# Altium integrated library Analog Devices Data Converters Analog-to-Digital Converters.IntLib: 2400 symbols (part 41 of 338)
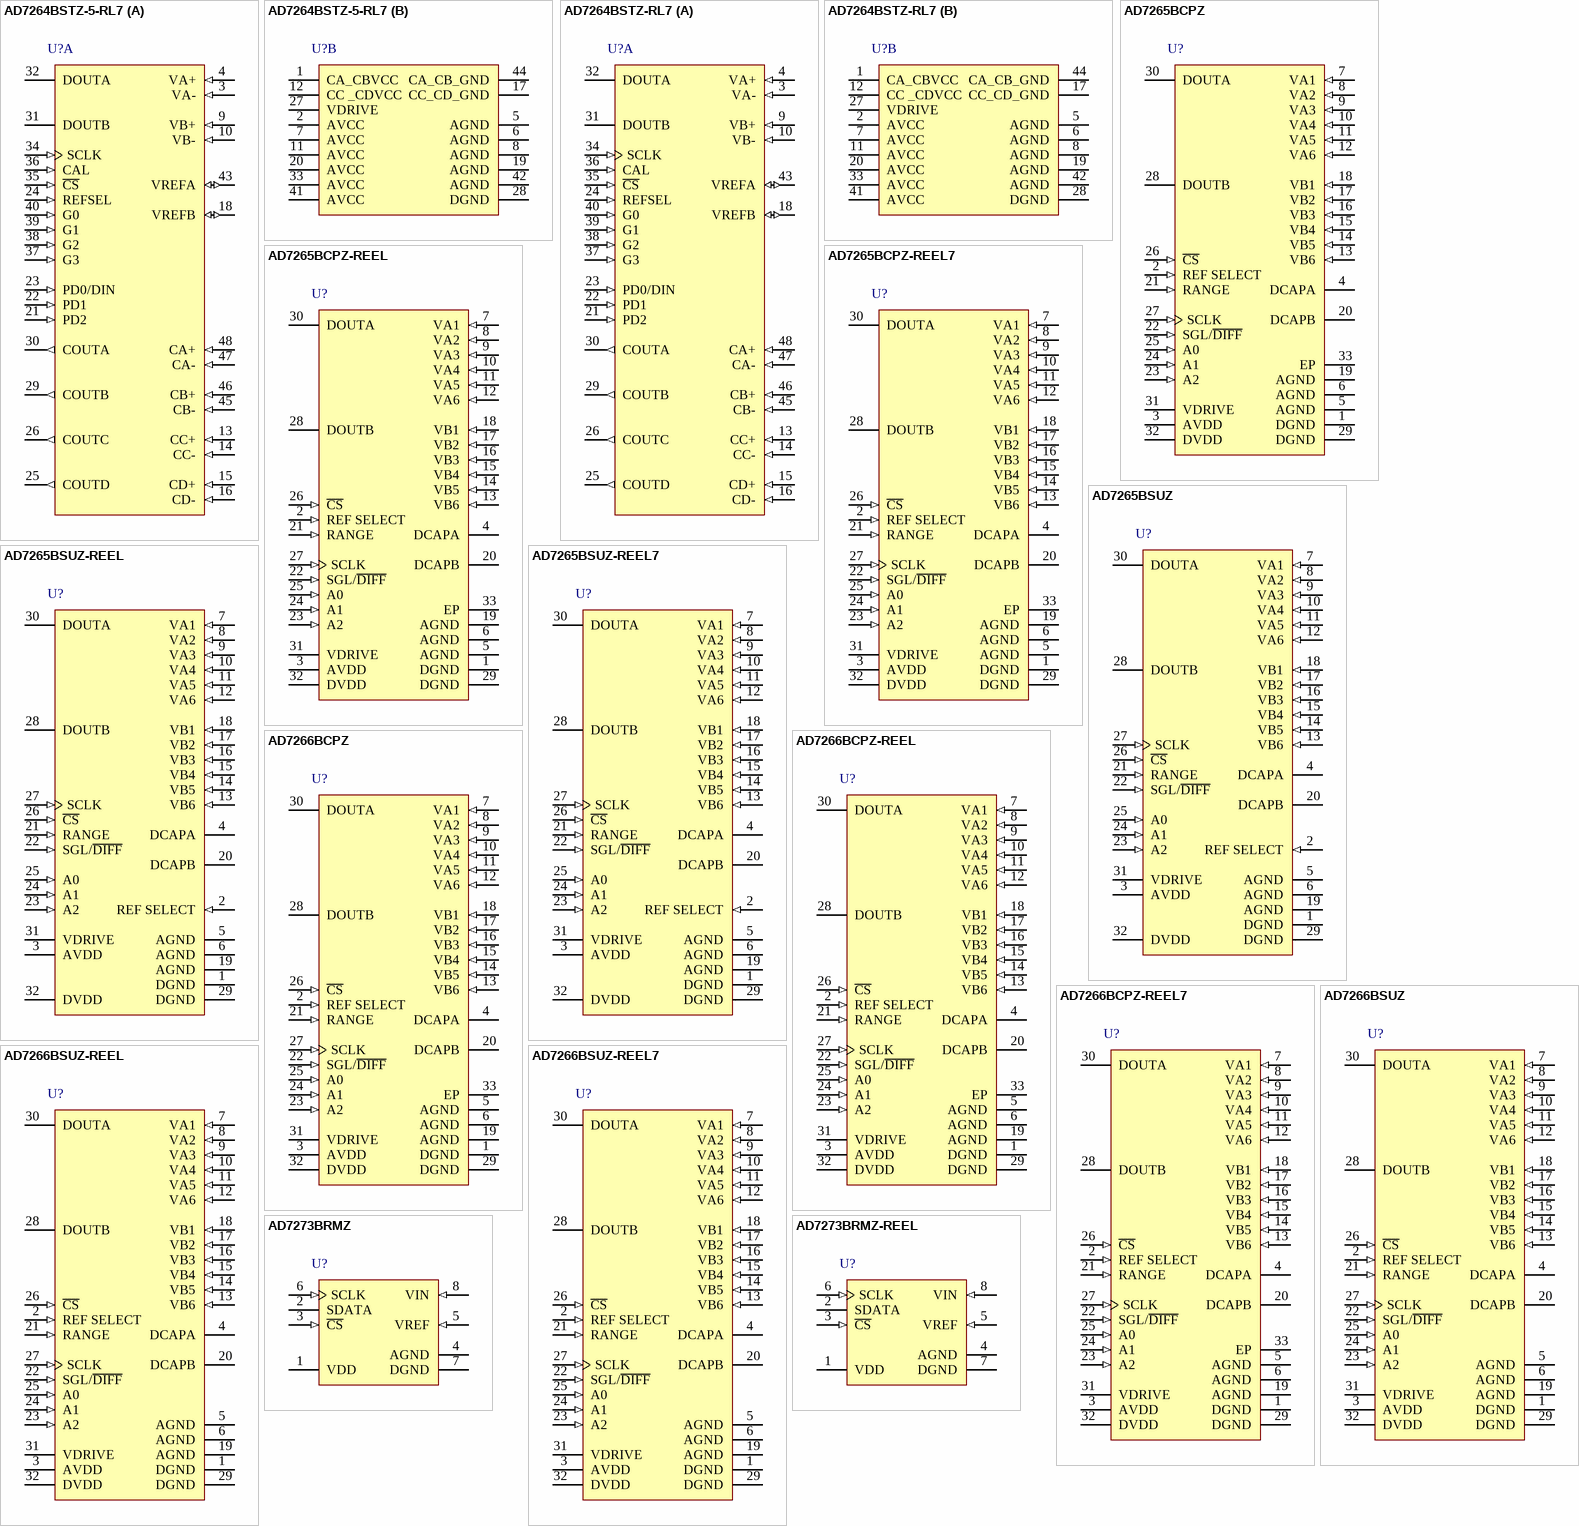
[diagram p278: symbols AD7264BSTZ-5-RL7 to AD7273BRMZ-REEL]

## AD7273BRMZ
designator U?
Single 10-Bit Analog-to-Digital Converter with Serial, SPI Interface, 3MSPS, -40 to +125 degC, RM-8, Pb-Free, Tube; Part Number: AD7273; Manufacturer: Analog Devices; Resolution (Bits): 10; Channels: 1; Throughput Rate (SPS): 3M; Interface: Ser, SPI; DatasheetVersion: Rev.0; PackageVersion: Aug-2005; PackageReference: RM-8; PackageDescription: 8-Lead Mini Small Outline Package [MSOP]; RoHS: Y; Packing: Tube; Mounting Technology: Surface Mount; Code_JEDEC: MO-187-AA; ComponentLink1Description: Manufacturer URL; ComponentLink1URL: http://www.analog.com/en/index.html; ComponentLink2Description: Datasheet; ComponentLink2URL: http://www.analog.com/static/imported-files/data_sheets/AD7273_7274.pdf; ComponentLink3Description: Package Specification; ComponentLink3URL: http://www.analog.com/static/imported-files/packages/PKG_PDF/MSOP%28RM%29/RM_8.pdf; ComponentLink4Description: Product URL; ComponentLink4URL: http://www.analog.com/en/analog-to-digital-converters/ad-converters/ad7273/products/product.html
footprint RM-8_N (TSOP, 8-Leads, Body 3x3mm, Pitch 0.65mm, IPC Medium Density)
footprint RM-8_L (TSOP, 8-Leads, Body 3x3mm, Pitch 0.65mm, IPC High Density)
footprint RM-8_M (TSOP, 8-Leads, Body 3x3mm, Pitch 0.65mm, IPC Low Density)
pins: 1 VDD (power) "Power Supply Input. The VDD range for the AD7273/AD7274 is from 2.35 V to 3.6 V.", 2 SDATA (hiz) "Data Out. Logic output. The conversion result from the AD7273/AD7274 is provided on this output as a serial data stream. The bits are clocked out on the falling edge of the SCLK input. The data stream from the AD7274 (See Datasheet)", 3 ~{CS} (in) "Chip Select. Active low logic input. This input provides the dual function of initiating conversion on the AD7273/AD7274 and framing the serial data transfer.", 4 AGND (power) "Analog Ground. Ground reference point for all circuitry on the AD7273/AD7274. All analog signals and any external reference signal should be referred to this AGND voltage.", 5 VREF (in) "Voltage Reference Input. This pin becomes the reference voltage input. An external reference should be applied at this pin. The external reference input range is 1.4 V to VDD. A 10 uF capacitor should be tied between this (See Datasheet)", 6 SCLK (in) "Serial Clock. Logic input. SCLK provides the serial clock for accessing data from the part. This clock input is also used as the clock source for the conversion process of AD7273/AD7274.", 7 DGND (power) "Digital Ground. Ground reference point for all digital circuitry on the AD7273/AD7274. The DGND and AGND voltages ideally should be at the same potential and must not be more than 0.3 V apart, even on a transient basis.", 8 VIN (in) "Analog Input. Single-ended analog input channel. The input range is 0 to VREF."

## AD7273BRMZ-REEL
designator U?
Single 10-Bit Analog-to-Digital Converter with Serial, SPI Interface, 3MSPS, -40 to +125 degC, RM-8, Pb-Free, Reel; Part Number: AD7273; Manufacturer: Analog Devices; Resolution (Bits): 10; Channels: 1; Throughput Rate (SPS): 3M; Interface: Ser, SPI; DatasheetVersion: Rev.0; PackageVersion: Aug-2005; PackageReference: RM-8; PackageDescription: 8-Lead Mini Small Outline Package [MSOP]; RoHS: Y; Packing: Reel; Mounting Technology: Surface Mount; Code_JEDEC: MO-187-AA; ComponentLink1Description: Manufacturer URL; ComponentLink1URL: http://www.analog.com/en/index.html; ComponentLink2Description: Datasheet; ComponentLink2URL: http://www.analog.com/static/imported-files/data_sheets/AD7273_7274.pdf; ComponentLink3Description: Package Specification; ComponentLink3URL: http://www.analog.com/static/imported-files/packages/PKG_PDF/MSOP%28RM%29/RM_8.pdf; ComponentLink4Description: Product URL; ComponentLink4URL: http://www.analog.com/en/analog-to-digital-converters/ad-converters/ad7273/products/product.html
footprint RM-8_N (TSOP, 8-Leads, Body 3x3mm, Pitch 0.65mm, IPC Medium Density)
footprint RM-8_L (TSOP, 8-Leads, Body 3x3mm, Pitch 0.65mm, IPC High Density)
footprint RM-8_M (TSOP, 8-Leads, Body 3x3mm, Pitch 0.65mm, IPC Low Density)
pins: 1 VDD (power) "Power Supply Input. The VDD range for the AD7273/AD7274 is from 2.35 V to 3.6 V.", 2 SDATA (hiz) "Data Out. Logic output. The conversion result from the AD7273/AD7274 is provided on this output as a serial data stream. The bits are clocked out on the falling edge of the SCLK input. The data stream from the AD7274 (See Datasheet)", 3 ~{CS} (in) "Chip Select. Active low logic input. This input provides the dual function of initiating conversion on the AD7273/AD7274 and framing the serial data transfer.", 4 AGND (power) "Analog Ground. Ground reference point for all circuitry on the AD7273/AD7274. All analog signals and any external reference signal should be referred to this AGND voltage.", 5 VREF (in) "Voltage Reference Input. This pin becomes the reference voltage input. An external reference should be applied at this pin. The external reference input range is 1.4 V to VDD. A 10 uF capacitor should be tied between this (See Datasheet)", 6 SCLK (in) "Serial Clock. Logic input. SCLK provides the serial clock for accessing data from the part. This clock input is also used as the clock source for the conversion process of AD7273/AD7274.", 7 DGND (power) "Digital Ground. Ground reference point for all digital circuitry on the AD7273/AD7274. The DGND and AGND voltages ideally should be at the same potential and must not be more than 0.3 V apart, even on a transient basis.", 8 VIN (in) "Analog Input. Single-ended analog input channel. The input range is 0 to VREF."

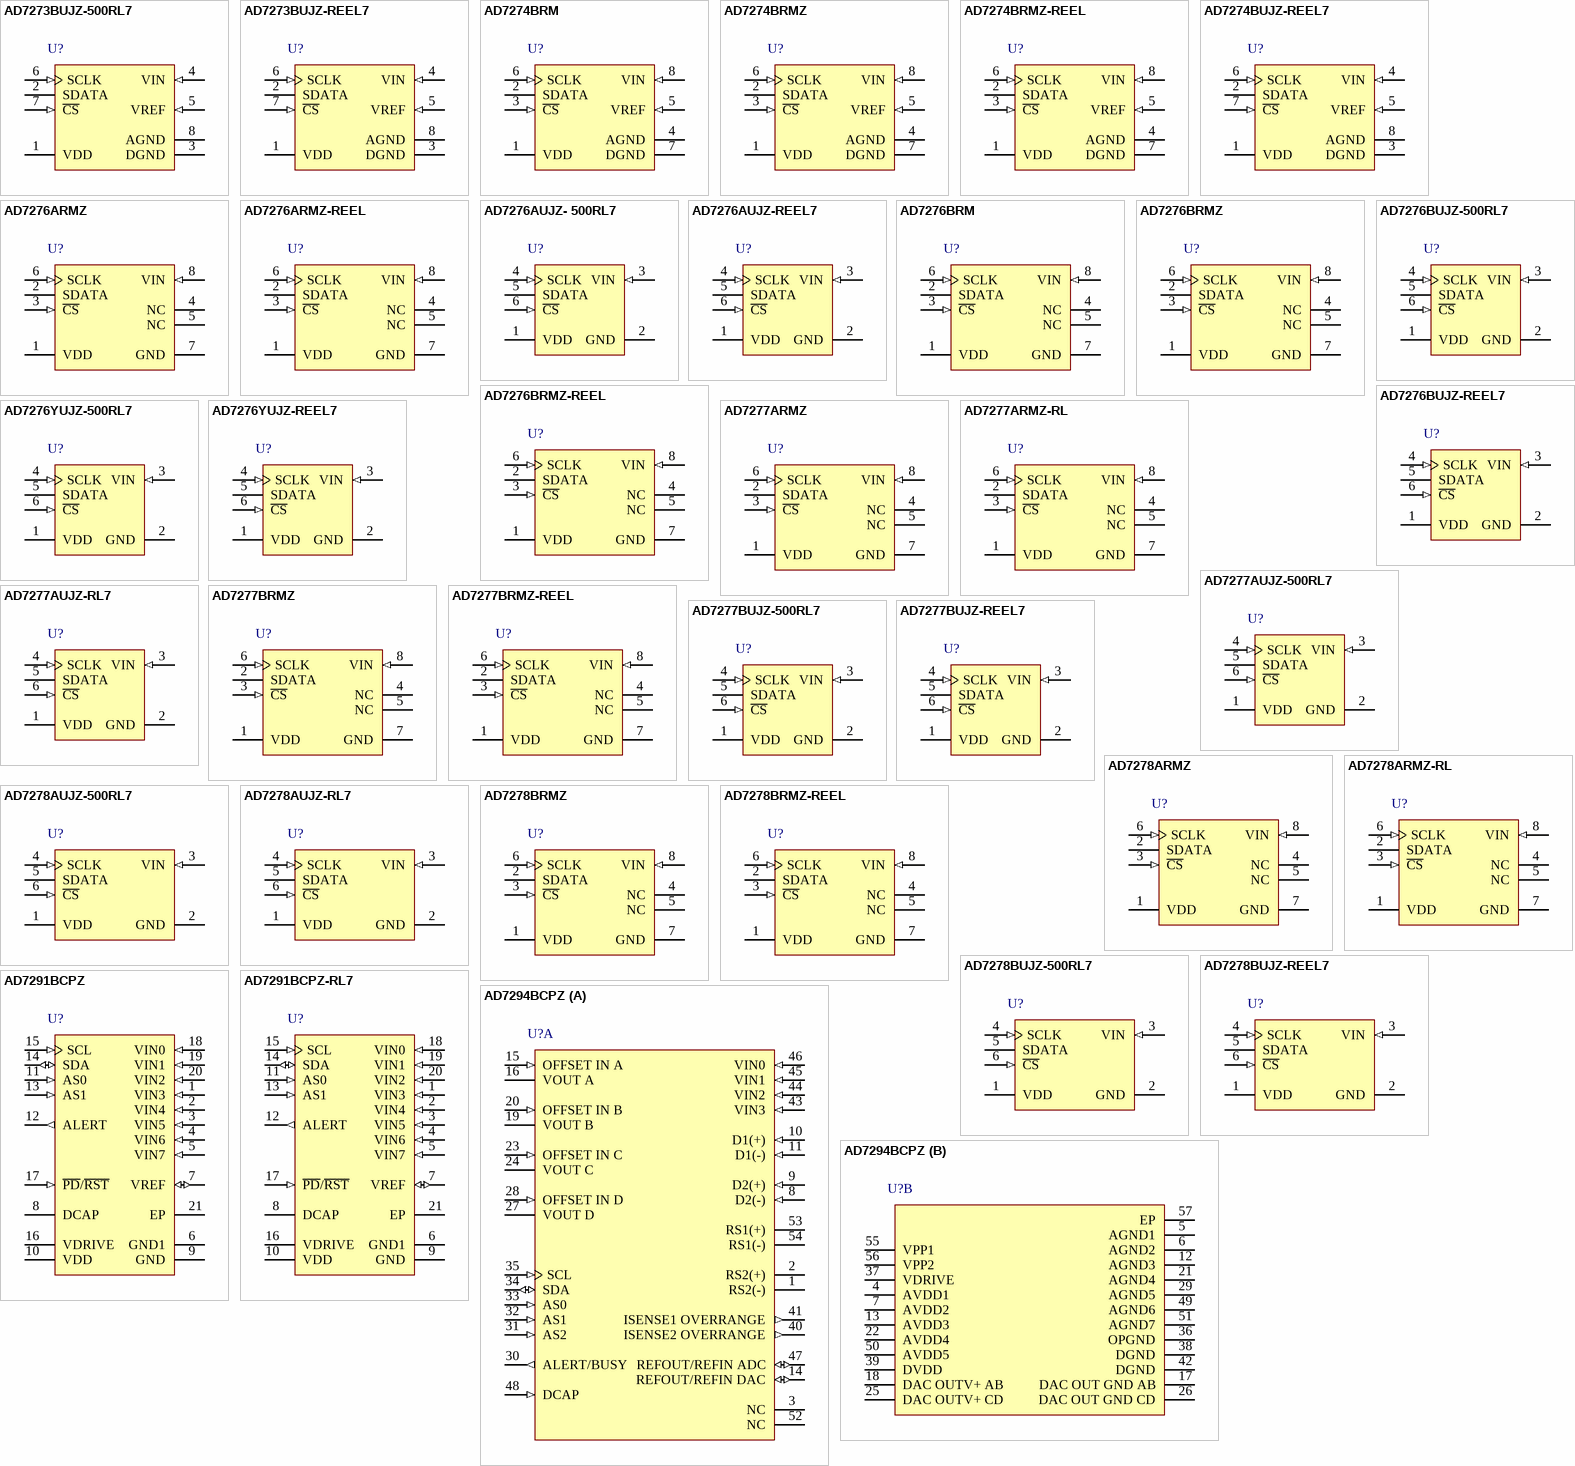
[diagram p18: symbols AD7273BUJZ-500RL7 to AD7294BCPZ]